# EAGLE library part AT42QT1040 (library AT42QT1040)
QTouch 4-key Sensor IC ATMEL 20 pin 3x3 mm VQFN RoHS compliant AUTOR CICHOCKI ZBIGNIEW E-mile ontario4@wp.pl
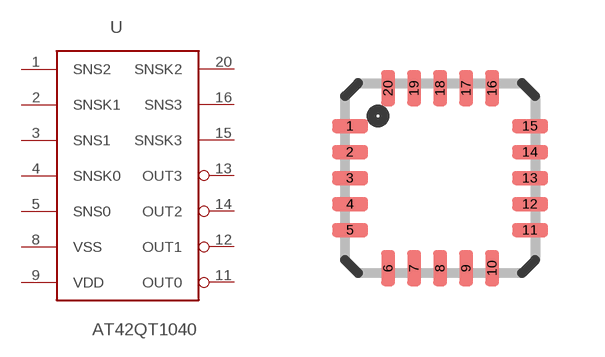
[diagram p0: symbol with the pads of QFN/MLF20; footprint QFN/MLF20]

Designator prefix -

## AT42QT1040  [QFN/MLF20]
1  SNS2
2  SNSK1
3  SNS1
4  SNSK0
5  SNS0
8  VSS  pwr
9  VDD  pwr
11  OUT0  out
12  OUT1  out
13  OUT3  out
14  OUT2  out
15  SNSK3
16  SNS3
20  SNSK2

## Footprint QFN/MLF20 (pad centres in mm)
HP-VFQFP-N20 Micro Lead Frame package (MLF)
smd 0.9 x 0.35: 1 -2.25,1.3; 2 -2.25,0.65; 3 -2.25,0; 4 -2.25,-0.65; 5 -2.25,-1.3; 11 2.25,-1.3; 12 2.25,-0.65; 13 2.25,0; 14 2.25,0.65; 15 2.25,1.3
smd 0.35 x 0.9: 6 -1.3,-2.25; 7 -0.65,-2.25; 8 0,-2.25; 9 0.65,-2.25; 10 1.3,-2.25; 16 1.3,2.25; 17 0.65,2.25; 18 0,2.25; 19 -0.65,2.25; 20 -1.3,2.25